# Altium schematic symbol library MCP2562FD-E_SN.SchLib: 2 symbols
Pins are listed as number, name and electrical type; pins without a type are passive.

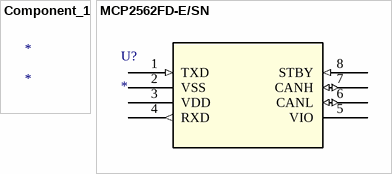
[diagram p0: symbols Component_1 to MCP2562FD-E/SN]

## Component_1
designator *

## MCP2562FD-E/SN
designator U?
No Description Available; Mfr_Name: Microchip; Digi-Key_Part_Number_1: MCP2562FD-E/SN-ND; RefDes: RefDes; Type: Type
footprint SOIC8-N_MC_MCH
pins: 1 TXD (in), 2 VSS (power), 3 VDD (power), 4 RXD (out), 5 VIO (power), 6 CANL (io), 7 CANH (io), 8 STBY (in)